# Altium footprint library UCDFR Transistors.PcbLib: 3 footprints
Each footprint in its own frame and in the unit in brackets; x right, y up, seen from the top. Pads: shape width x height; smd on the part's side, far side on the other; paste and mask are expansions set on the pad; w line width, h text height; cw(c..) or ccw(c..) is an arc to the next point about the centre after c.
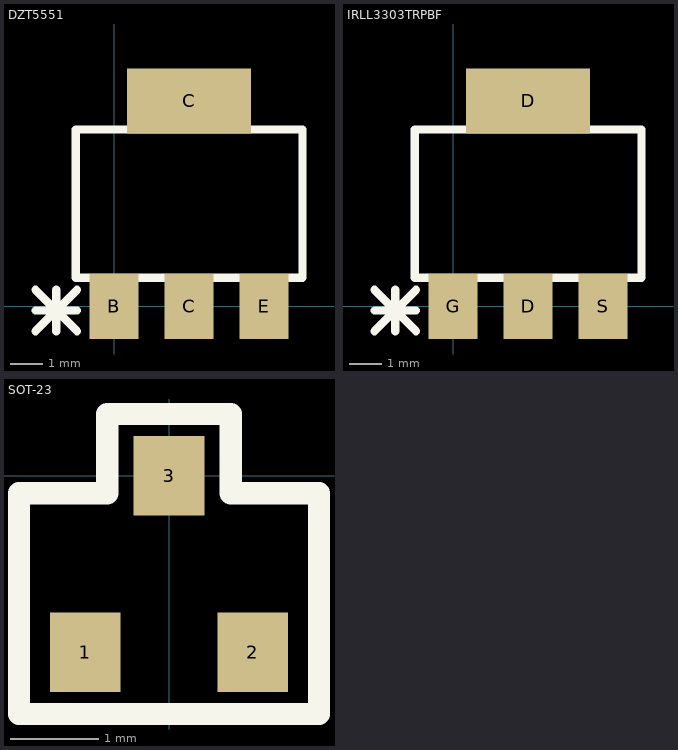
[diagram p0: the footprints below, top view; thin cyan lines are the x and y axes]

## DZT5551 [mm] "Diodes Inc. NPN BJT"
pads (4):
  rect 1.5x2 smd: B(0,0) C(2.3,0) E(4.6,0)
  rect 3.8x2 smd: C(2.3,6.3)
Top Overlay:
  lines w0.254: -2.413,-0.762 -1.143,0.508 ; -2.413,-0.127 -1.143,-0.127 ; -2.413,0.508 -1.143,-0.762 ; -1.778,-0.762 -1.778,0.508 ; -1.175,0.875 -1.175,5.425 5.775,5.425 5.775,0.875 -1.175,0.875
3D body: height 1.7, standoff 0, extent -0.964,-0.325 5.536,6.675

## IRLL3303TRPBF [mm] "SOT223"
height 1.55
pads (4):
  rect 1.5x2 smd: D(2.3,0) G(0,0) S(4.6,0)
  rect 3.8x2 smd: D(2.3,6.3)
Top Overlay:
  lines w0.254: -2.413,-0.762 -1.143,0.508 ; -2.413,-0.127 -1.143,-0.127 ; -2.413,0.508 -1.143,-0.762 ; -1.778,-0.762 -1.778,0.508 ; -1.175,0.875 5.775,0.875 5.775,5.425 -1.175,5.425 -1.175,0.875
3D body: height 1.7, standoff 0, extent -0.964,-0.325 5.536,6.675

## SOT-23 [mm]
pads (3):
  rect 0.8x0.9 smd: 1(-0.95,-2) 2(0.95,-2) 3(0,0)
Top Overlay:
  lines w0.254: -1.7,-2.7 1.7,-2.7 1.7,-0.2 0.7,-0.2 0.7,0.7 -0.7,0.7 -0.7,-0.2 -1.7,-0.2 -1.7,-2.7
3D body: height 1.09, standoff 0, extent -1.5,-2.266 1.5,0.234